# EAGLE library part 1X07_2MM (library DECADE-libraries20151104)
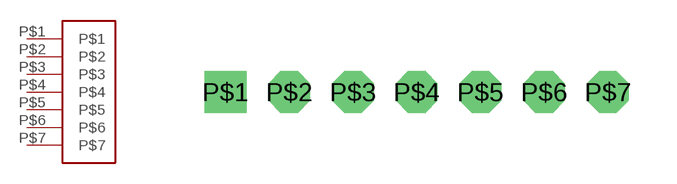
[diagram p118: symbol with the pads of 1X07_2MM; footprint 1X07_2MM]

Designator prefix -

## 1X07_2MM  [1X07_2MM]
P$1  P$1
P$2  P$2
P$3  P$3
P$4  P$4
P$5  P$5
P$6  P$6
P$7  P$7

## Footprint 1X07_2MM (pad centres in mm)
drill 0.8 square: P$1 0,0
drill 0.8 octagon: P$2 2,0; P$3 4,0; P$4 6,0; P$5 8,0; P$6 10,0; P$7 12,0